# Altium footprint library CSMS.PcbLib: 10 footprints
Each footprint in its own frame and in the unit in brackets; x right, y up, seen from the top. Pads: shape width x height; smd on the part's side, far side on the other; paste and mask are expansions set on the pad; w line width, h text height; cw(c..) or ccw(c..) is an arc to the next point about the centre after c.
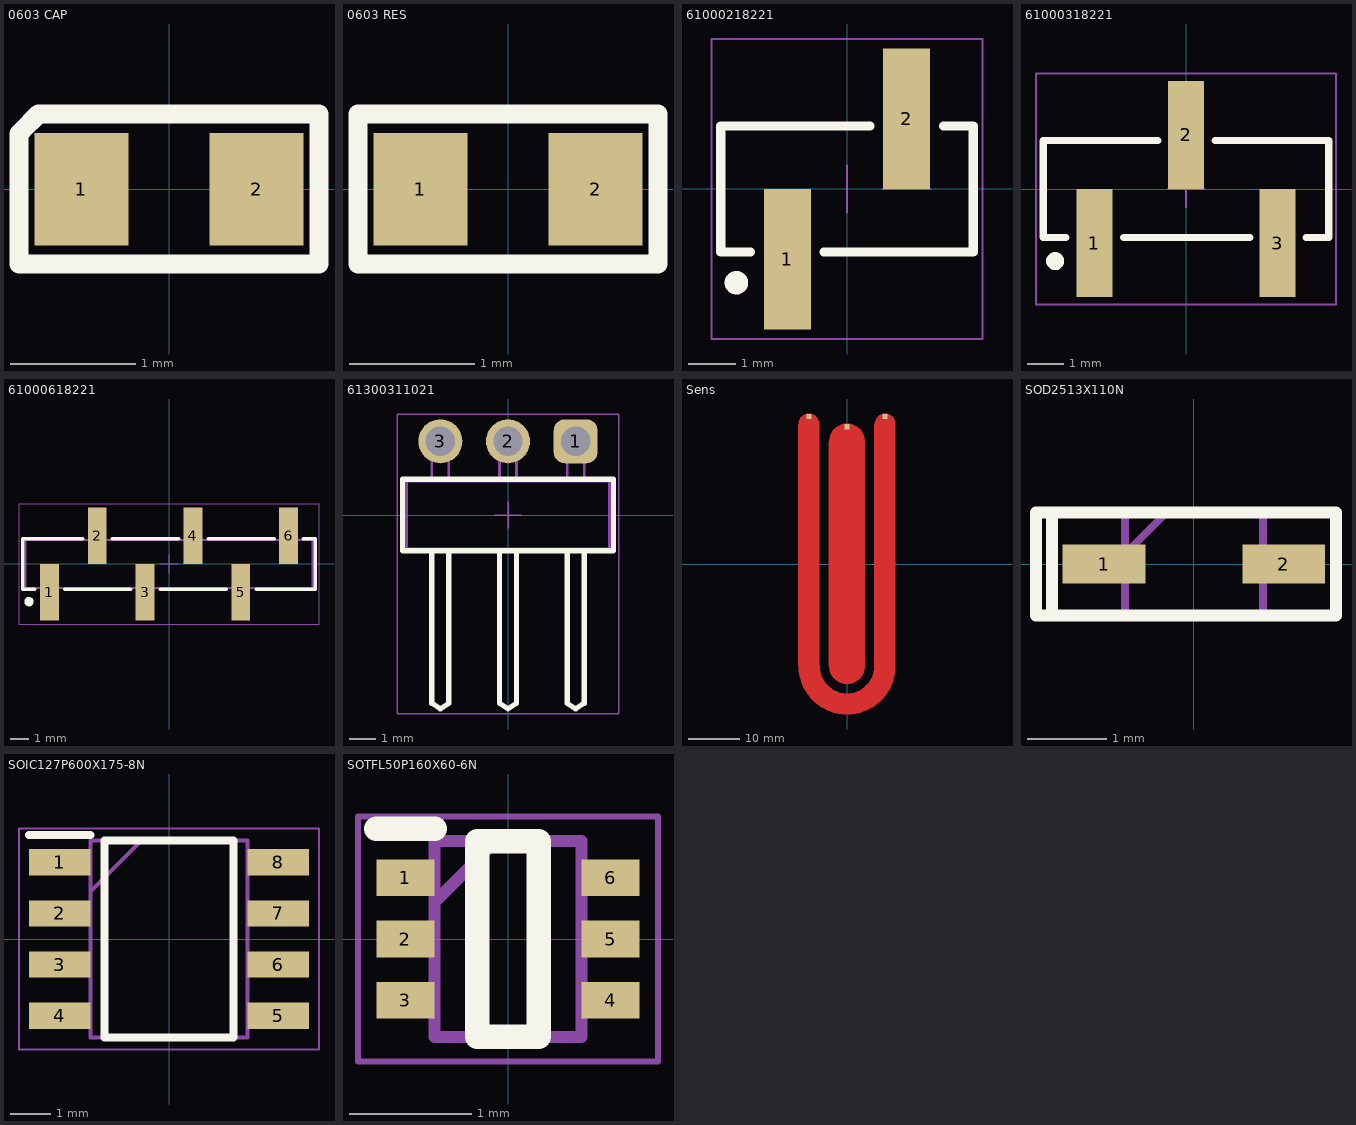
[diagram p0: the footprints below, top view; thin cyan lines are the x and y axes]

## 0603 CAP [mm]
pads (2):
  rect 0.75x0.9 smd: 1(-0.7,0) 2(0.7,0)
Top Overlay:
  lines w0.153: -1.2,0.444 -1.2,-0.6 1.2,-0.6 1.2,0.6 -1.044,0.6 -1.181,0.462
3D body "capacitor_rnd_1500603f153z500.stp": height 0.8, standoff 0, extent -0.8,-0.4 0.8,0.4

## 0603 RES [mm]
pads (2):
  rect 0.75x0.9 smd: 1(-0.7,0) 2(0.7,0)
Top Overlay:
  lines w0.153: -1.2,-0.6 -1.2,0.6 1.2,0.6 1.2,-0.6 -1.2,-0.6
3D body "step_temp.STEP": height 0.45, standoff 0, extent -0.775,-0.4 0.825,0.4

## 61000218221 [mm] "Pin Header, pitch 2.54 mm, SMD, Vertical, single row, 2p"
height 9.3
pads (2):
  rect 1x3 smd: 1(-1.27,-1.5) 2(1.27,1.5)
Top Overlay:
  circle w0.25: c-2.36,-2 r0.125
  lines w0.2: -2.06,-1.345 -2.69,-1.345 -2.69,1.345 0.49,1.345 ; -0.49,-1.345 2.69,-1.345 2.69,1.345 2.06,1.345
Top Courtyard:
  lines w0.05: -2.89,-3.2 -2.89,3.2 2.89,3.2 2.89,-3.2 -2.89,-3.2
Top Component Outline:
  lines w0.1: -1.59,-1.27 -1.59,-2.5 -0.95,-2.5 -0.95,-1.27 ; 0.95,1.27 0.95,2.5 1.59,2.5 1.59,1.27
Top Component Center:
  lines w0.05: 0,-0.5 0,0.5 ; 0.77,0 1.77,0

## 61000318221 [mm] "Pin Header, pitch 2.54 mm, SMD, Vertical, single row, 6p"
height 9.3
pads (3):
  rect 1x3 smd: 1(-2.54,-1.5) 2(0,1.5) 3(2.54,-1.5)
Top Overlay:
  circle w0.25: c-3.63,-2 r0.125
  lines w0.2: -3.33,-1.345 -3.96,-1.345 -3.96,1.345 -0.78,1.345 ; -1.73,-1.345 1.77,-1.345 ; 0.81,1.345 3.937,1.345 ; 3.33,-1.345 3.96,-1.345 3.96,1.345
Top Courtyard:
  lines w0.05: -4.16,-3.2 4.16,-3.2 4.16,3.2 -4.16,3.2 -4.16,-3.2
Top Component Outline:
  lines w0.1: -2.86,-1.27 -2.86,-2.5 -2.22,-2.5 -2.22,-1.27 ; -0.32,1.27 -0.32,2.5 0.32,2.5 0.32,1.27 ; 2.22,-1.27 2.22,-2.5 2.86,-2.5 2.86,-1.27
Top Component Center:
  lines w0.05: -0.5,0 0.5,0 ; 0,-0.5 0,0.5

## 61000618221 [mm] "Pin Header, pitch 2.54 mm, SMD, Vertical, single row, 6p"
height 9.3
pads (6):
  rect 1x3 smd: 1(-6.35,-1.5) 2(-3.81,1.5) 3(-1.27,-1.5) 4(1.27,1.5) 5(3.81,-1.5) 6(6.35,1.5)
Top Overlay:
  circle w0.25: c-7.44,-2 r0.125
  lines w0.2: -7.14,-1.345 -7.77,-1.345 -7.77,1.345 -4.59,1.345 ; -5.54,-1.345 -2.04,-1.345 ; -3,1.345 0.5,1.345 ; -0.46,-1.345 3.04,-1.345 ; 2.08,1.345 5.58,1.345 ; 4.64,-1.345 7.77,-1.345 7.77,1.345 7.14,1.345
Top Courtyard:
  lines w0.05: -7.97,-3.2 7.97,-3.2 7.97,3.2 -7.97,3.2 -7.97,-3.2
Top Designator:
  text ".Designator" at -7.498,-0.5 h1.5
Top Component Outline:
  lines w0.1: -6.67,-1.27 -6.67,-2.5 -6.03,-2.5 -6.03,-1.27 ; -4.13,1.27 -4.13,2.5 -3.49,2.5 -3.49,1.27 ; -1.59,-1.27 -1.59,-2.5 -0.95,-2.5 -0.95,-1.27 ; 0.95,1.27 0.95,2.5 1.59,2.5 1.59,1.27 ; 3.49,-1.27 3.49,-2.5 4.13,-2.5 4.13,-1.27 ; 6.03,1.27 6.03,2.5 6.67,2.5 6.67,1.27 ; -7.62,-1.27 -7.62,1.27 7.62,1.27 7.62,-1.27 -7.62,-1.27
Top Component Center:
  lines w0.05: -0.5,0 0.5,0 ; 0,-0.5 0,0.5
3D body "61000618221.stp": height 9.33, standoff 0, extent -7.62,-2.5 7.62,2.5

## 61300311021 [mm] "Pin Header, pitch 2.54 mm, THT, Angled, single row, 3p"
height 2.54
pads (3):
  rrect50% 1.65x1.65 hole 1.1: 1(2.54,2.77)
  round 1.65 hole 1.1: 2(0,2.77) 3(-2.54,2.77)
Top Overlay:
  lines w0.2: -2.86,-1.345 -2.86,-7.07 -2.54,-7.27 -2.22,-7.07 -2.22,-1.345 ; -0.32,-1.345 -0.32,-7.07 0,-7.27 0.32,-7.07 0.32,-1.345 ; 2.22,-1.345 2.22,-7.07 2.54,-7.27 2.86,-7.07 2.86,-1.345 ; -3.96,-1.345 3.96,-1.345 3.96,1.345 -3.96,1.345 -3.96,-1.345
Top 3D Body:
  lines w0.1: -2.86,-1.27 -2.86,-7.07 -2.54,-7.27 -2.22,-7.07 -2.22,-1.27 ; -2.86,1.27 -2.86,3.09 -2.22,3.09 -2.22,1.27 ; -0.32,-1.27 -0.32,-7.07 0,-7.27 0.32,-7.07 0.32,-1.27 ; -0.32,1.27 -0.32,3.09 0.32,3.09 0.32,1.27 ; 2.22,-1.27 2.22,-7.07 2.54,-7.27 2.86,-7.07 2.86,-1.27 ; 2.22,1.27 2.22,3.09 2.86,3.09 2.86,1.27 ; -3.81,-1.27 3.81,-1.27 3.81,1.27 -3.81,1.27 -3.81,-1.27
Top Courtyard:
  lines w0.05: -0.5,0 0.5,0 ; 0,-0.5 0,0.5 ; -4.16,-7.47 4.16,-7.47 4.16,3.795 -4.16,3.795 -4.16,-7.47
Top Designator:
  text ".Designator" at -7.498,-0.5 h1.5
Top Component Outline:
  lines w0.1: -2.86,-1.27 -2.86,-7.07 -2.54,-7.27 -2.22,-7.07 -2.22,-1.27 ; -2.86,1.27 -2.86,3.09 -2.22,3.09 -2.22,1.27 ; -0.32,-1.27 -0.32,-7.07 0,-7.27 0.32,-7.07 0.32,-1.27 ; -0.32,1.27 -0.32,3.09 0.32,3.09 0.32,1.27 ; 2.22,-1.27 2.22,-7.07 2.54,-7.27 2.86,-7.07 2.86,-1.27 ; 2.22,1.27 2.22,3.09 2.86,3.09 2.86,1.27 ; -3.81,-1.27 -3.81,1.27 3.81,1.27 3.81,-1.27 -3.81,-1.27
3D body "61300311021.stp": height 2.58, standoff -2.96, extent -3.81,-7.27 3.81,3.09

## Sens [mm]
pads (3):
  rect 1x1 smd: 1(0,27) 2(-7.5,29) 2(7.5,29)
Top Layer:
  region: -3.5,-20 -3.5,-20.275 -3.414,-20.82 -3.244,-21.344 -2.993,-21.834 -2.67,-22.28 -2.28,-22.67 -1.834,-22.993 -1.344,-23.244 -0.82,-23.414 -0.275,-23.5 0.275,-23.5 0.82,-23.414 1.344,-23.244 1.834,-22.993 2.28,-22.67 2.67,-22.28 2.993,-21.834 3.244,-21.344 3.414,-20.82 3.5,-20.275 3.5,-20 3.5,24 3.5,24.275 3.414,24.82 3.244,25.344 2.993,25.834 2.67,26.28 2.28,26.67 1.834,26.993 1.344,27.244 0.82,27.414 0.275,27.5 -0.275,27.5 -0.82,27.414 -1.344,27.244 -1.834,26.993 -2.28,26.67 -2.67,26.28 -2.993,25.834 -3.244,25.344 -3.414,24.82 -3.5,24.275 -3.5,24
  region: -9.5,-20 -9.5,27.5 -9.5,27.697 -9.423,28.083 -9.272,28.447 -9.054,28.775 -8.775,29.054 -8.447,29.272 -8.083,29.423 -7.697,29.5 -7.303,29.5 -6.917,29.423 -6.553,29.272 -6.225,29.054 -5.946,28.775 -5.728,28.447 -5.577,28.083 -5.5,27.697 -5.5,27.5 -5.5,-20 -5.488,-20.36 -5.394,-21.073 -5.208,-21.768 -4.933,-22.433 -4.573,-23.056 -4.135,-23.626 -3.626,-24.135 -3.056,-24.573 -2.433,-24.933 -1.768,-25.208 -1.073,-25.394 -0.36,-25.488 0.36,-25.488 1.073,-25.394 1.768,-25.208 2.433,-24.933 3.056,-24.573 3.626,-24.135 4.135,-23.626 4.573,-23.056 4.933,-22.433 5.208,-21.768 5.394,-21.073 5.488,-20.36 5.5,-20 5.5,27.5 5.5,27.697 5.577,28.083 5.728,28.447 5.946,28.775 6.225,29.054 6.553,29.272 6.917,29.423 7.303,29.5 7.697,29.5 8.083,29.423 8.447,29.272 8.775,29.054 9.053,28.775 9.272,28.447 9.423,28.083 9.5,27.697 9.5,27.5 9.5,-20 9.5,-20.467 9.409,-21.396 9.226,-22.311 8.955,-23.204 8.598,-24.067 8.158,-24.89 7.64,-25.666 7.048,-26.388 6.388,-27.048 5.666,-27.64 4.89,-28.158 4.067,-28.598 3.204,-28.955 2.311,-29.226 1.396,-29.409 0.467,-29.5 -0.467,-29.5 -1.396,-29.409 -2.311,-29.226 -3.204,-28.955 -4.067,-28.598 -4.89,-28.158 -5.666,-27.64 -6.388,-27.048 -7.048,-26.388 -7.64,-25.666 -8.158,-24.89 -8.598,-24.067 -8.955,-23.204 -9.226,-22.311 -9.409,-21.396 -9.5,-20.467
  lines w0.2: -9.5,-20 ccw(c0,-20) 9.5,-20 9.5,27.5 ccw(c7.5,27.5) 5.5,27.5 5.5,-20 cw(c0,-20) -5.5,-20 -5.5,27.5 ccw(c-7.5,27.5) -9.5,27.5 -9.5,-20 ; -3.5,-20 ccw(c0,-20) 3.5,-20 3.5,24 ccw(c0,24) -3.5,24 -3.5,-20
Mechanical 1:
  circle w0.2: c0,0 r3.052
  lines w0.2: -5.592,0 -5.08,0 ; -2.54,0 0,0 ; 0,-5.592 0,-5.08 ; 0,-2.54 0,0 ; 0,2.54 0,0 ; 0,5.08 0,5.592 ; 2.54,0 0,0 ; 5.08,0 5.592,0

## SOD2513X110N [mm]
pads (2):
  rect 1.05x0.5 smd: 1(-1.138,0) 2(1.138,0)
Top Overlay:
  lines w0.153: -1.8,-0.65 -1.8,0.65 ; -2,-0.65 1.8,-0.65 1.8,0.65 -2,0.65 -2,-0.65
Mechanical 13:
  lines w0.1: -0.875,0.125 -0.35,0.65 ; -0.875,-0.65 0.875,-0.65 0.875,0.65 -0.875,0.65 -0.875,-0.65
3D body "1SS315_TPH3,F_.stp": height 1.1, standoff 0, extent -1.25,-0.65 1.25,0.65

## SOIC127P600X175-8N [mm]
pads (8):
  rect 1.525x0.65 smd: 1(-2.712,1.905) 2(-2.712,0.635) 3(-2.712,-0.635) 4(-2.712,-1.905) 5(2.712,-1.905) 6(2.712,-0.635) 7(2.712,0.635) 8(2.712,1.905)
Top Overlay:
  lines w0.2: -3.475,2.58 -1.95,2.58 ; -1.6,-2.45 -1.6,2.45 1.6,2.45 1.6,-2.45 -1.6,-2.45
Mechanical 13:
  lines w0.1: -1.95,1.18 -0.68,2.45 ; -1.95,-2.45 -1.95,2.45 1.95,2.45 1.95,-2.45 -1.95,-2.45
Mechanical 15:
  lines w0.05: -3.725,-2.75 -3.725,2.75 3.725,2.75 3.725,-2.75 -3.725,-2.75
3D body "NE555DR.stp": height 1.75, standoff 0, extent -3,-2.45 3,2.45

## SOTFL50P160X60-6N [mm]
pads (6):
  rect 0.475x0.3 smd: 1(-0.838,0.5) 2(-0.838,0) 3(-0.838,-0.5) 4(0.838,-0.5) 5(0.838,0) 6(0.838,0.5)
Top Overlay:
  lines w0.2: -1.075,0.9 -0.6,0.9 ; -0.25,-0.8 -0.25,0.8 0.25,0.8 0.25,-0.8 -0.25,-0.8
Mechanical 13:
  lines w0.1: -0.6,0.3 -0.1,0.8 ; -0.6,-0.8 -0.6,0.8 0.6,0.8 0.6,-0.8 -0.6,-0.8
Mechanical 15:
  lines w0.05: -1.225,-1 -1.225,1 1.225,1 1.225,-1 -1.225,-1
3D body "TMP102AIDRLR.stp": height 0.6, standoff 0, extent -0.8,-0.8 0.8,0.8